# Altium integrated library ATTINY44A-SSU.IntLib: 1 symbol
Pins are listed as number, name and electrical type; pins without a type are passive.

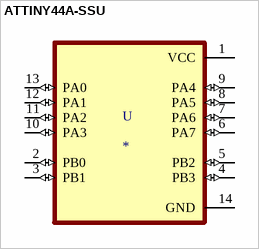
[diagram p0: symbol ATTINY44A-SSU]

## ATTINY44A-SSU
designator U
AVR AVRÂ® ATtiny Microcontroller IC 8-Bit 20MHz 4KB (2K x 16) FLASH 14-SOIC; MF: Microchip; MP: ATTINY44A-SSU; SnapEDA_Link: https://www.snapeda.com/parts/ATTINY44A-SSU/Microchip/view-part/666505/?ref=snap; Price: None; Package: SOIC-14 Microchip; Value: *; Availability: Unavailable
footprint SOIC127P600X175-14N
pins: 1 VCC (power), 2 PB0 (io), 3 PB1 (io), 4 PB3 (io), 5 PB2 (io), 6 PA7 (io), 7 PA6 (io), 8 PA5 (io), 9 PA4 (io), 10 PA3 (io), 11 PA2 (io), 12 PA1 (io), 13 PA0 (io), 14 GND (power)